# Altium integrated library RELAY.IntLib: 10 symbols
Pins are listed as number, name and electrical type; pins without a type are passive.

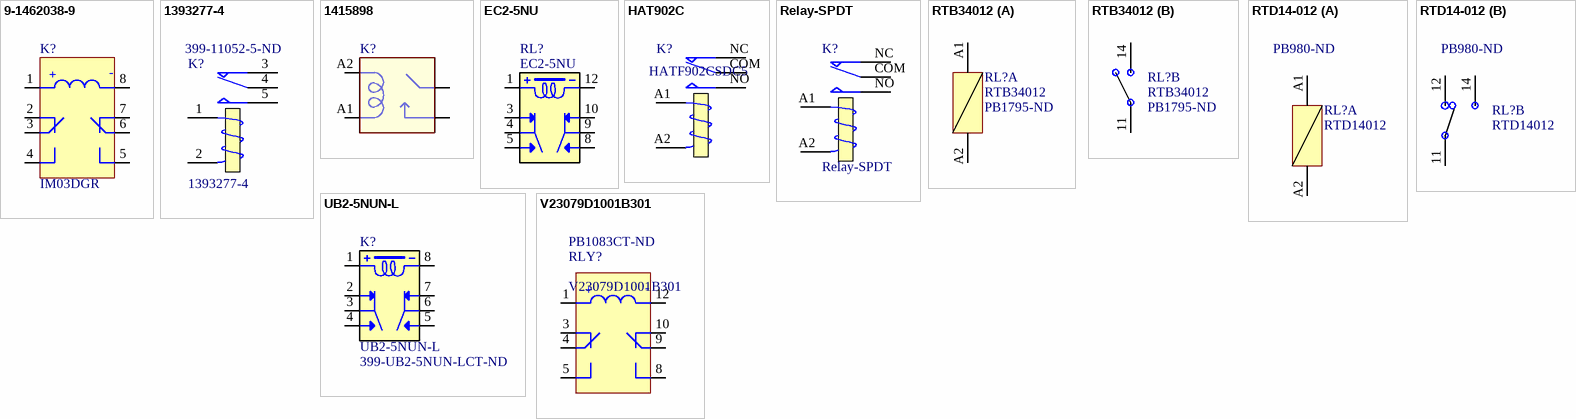
[diagram p0: symbols 9-1462038-9 to V23079D1001B301]

## 9-1462038-9
designator K?, comment IM03DGR
RELAY TELECOM DPDT 5A 5V; Manufacturer: TE Connectivity Potter & Brumfield Relays; Manufacturer Part Number: 9-1462038-9; Coil Type: Non Latching; Coil Current: 28mA; Coil Voltage: 5VDC; Contact Form: DPDT (2 Form C); Switching Voltage: 250VAC, 220VDC - Max; Turn On Voltage (Max): 3.75 VDC; Turn Off Voltage (Min): 0.5 VDC; Operate Time: 3ms; Coil Power: 140 mW; Coil Resistance: 178 Ohms; Supplier 1: Digi-Key; RoHS: RoHS Compliant; Category: Relays; Stock 1: 7189; Pricing 1: 1=3.66, 10=3.427, 25=3.0492, 50=2.8894, 100=2.7443, 250=2.43936, 500=2.27964 (USD); Packaging: Cut Tape (CT); Relay Type: Telecom; Contact Rating (Current): 5A; Release Time: 3ms; Features: Sealed - Hermetically; Mounting Type: Surface Mount; Termination Style: Gull Wing; Contact Material: Silver Nickel (AgNi), Gold (Au); Operating Temperature: -40°C ~ 85°C; ComponentLink1URL: http://www.te.com/commerce/DocumentDelivery/DDEController?Action=srchrtrv&DocNm=108-98001&DocType=SS&DocLang=EN; ComponentLink1Description: http://www.te.com/commerce/DocumentDelivery/DDEController?Action=srchrtrv&DocNm=108-98001&DocType=SS&DocLang=EN; Supplier Part Number 1: PB1172CT-ND; Value: IM03DGR
footprint RELAY8-239X396_2
pins: 1, 2, 3, 4, 5, 6, 7, 8
text: +; -

## 1393277-4
designator K?  Supplier Part Number 3: 399-11052-5-ND
Electromechanical Relay 12VDC 90Ohm 100(NO)/30(NC)A SPDT (26.1x21.1x21.2)mm THT Power Relay; Manufacturer: TE Connectivity AMP; Contact Current Rating: 30A; Coil Current: 133.3mA; Operate Time: 5ms; Number of Contacts: 2; Coil Power: 1.6W; Coil Voltage (DC): 12V; Supplier 1: Digi-Key; Manufacturer Part Number: 1393277-4; Stock 1: 0; Pricing 1: 5250=1.378 (USD); Mount: Through Hole; Number of Pins: 7; Contact Material: Nickel,Silver; Min Operating Temperature: -40°C; Max Operating Temperature: 85°C; Packaging: Bulk; Throw Configuration: SPDT; Depth: 21.1mm; Radiation Hardening: No; REACH SVHC: Unknown; Lead Free: Lead Free; ELV: Compliant; ComponentLink1URL: https://datasheet.ciiva.com/1186/1835430-1186626.pdf; ComponentLink1Description: https://datasheet.ciiva.com/1186/1835430-1186626.pdf; ComponentLink2URL: https://datasheet.ciiva.com/14339/eng-ds-v23076-x0000-a001-e-14339975.pdf; ComponentLink2Description: https://datasheet.ciiva.com/14339/eng-ds-v23076-x0000-a001-e-14339975.pdf; ComponentLink3URL: https://datasheet.ciiva.com/15226/getdatasheetpartid-395515-15226781.pdf; ComponentLink3Description: https://datasheet.ciiva.com/15226/getdatasheetpartid-395515-15226781.pdf; ComponentLink4URL: https://datasheet.ciiva.com/17369/eng-ds-v23076-x0000-a001-e-17369326.pdf; ComponentLink4Description: https://datasheet.ciiva.com/17369/eng-ds-v23076-x0000-a001-e-17369326.pdf; Supplier 2: Mouser; Value: 1393277-4; Supplier Part Number 1: 1393277-4-ND; Supplier Part Number 2: 571-1393277-4; Supplier 3: Digi-Key
footprint 1-1393277-4
pins: 1, 2, 3 NC, 4 COM, 5

## 1415898
designator K?  (value not drawn)
RTS3T012; MF: TE Connectivity; MP: 1415898; Price: None; Availability: Unavailable; SnapEDA_Link: https://www.snapeda.com/parts/1415898/TE%20Connectivity/view-part/?ref=snap; TE_purchase_URL: https://www.te.com/usa-en/product-1415898.html?te_bu=Cor&te_type=disp&te_campaign=seda_glo_cor-seda-global-disp-prtnr-fy19-seda-model-bom-cta_sma-317_1&elqCampaignId=32493; Package: None; Value: *
footprint *RELAY_1415898_1415898(Primary)
pins: 11_1 11, 11_2 11, 14_1 14, 14_2 14, A1, A2

## EC2-5NU
designator RL?
Relay; E-Mech; DPDT; Ctrl-V 5DC; 2A; 250VAC; PCB Mount; Thru Hole; EC2/EE2 Series; Manufacturer: KEMET; Coil Current: 28mA; Coil Resistance: 178R; Coil Voltage (DC): 5V; Operate Time: 2ms; Max Voltage Rating (AC): 250V; Max Voltage Rating (DC): 220V; Coil Type: Non-Latching; Power Consumption: 140mW; Release Time: 1ms; Number of Poles: 1; Relay Type: General Purpose; Supplier 1: Digi-Key; Manufacturer Part Number: EC2-5NU; Stock 1: 17647; Pricing 1: 1 = 1,63000, 10 = 1,53000, 25 = 1,36000, 50 = 1,29200, 100 = 1,22400, 250 = 1,08800, 500 = 1,02000, 3360 = 0,93500, 6720 = 0,91800 (USD); RoHS: Yes; Mount: Through Hole; Number of Pins: 8; Contact Material: Gold; Min Operating Temperature: -40°C; Max Operating Temperature: 85°C; Throw Configuration: DPDT; Packaging: Rail/Tube; Max Current Rating: 2A; Contact Current Rating: 2A; Termination: PC Pin; Package Quantity: 35; Coil Power: 140mW; Current Rating: 2A; Length: 15mm; Height: 9.4mm; Depth: 7.5mm; Radiation Hardening: No; REACH SVHC: No SVHC; ComponentLink1URL: https://datasheet.ciiva.com/29760/docfinderpartnumber-ec2-5nu-29760955.pdf?src-supplier=Digi-Key; ComponentLink1Description: https://datasheet.ciiva.com/29760/docfinderpartnumber-ec2-5nu-29760955.pdf?src-supplier=Digi-Key; ComponentLink2URL: https://datasheet.ciiva.com/28629/1751677-28629990.pdf?src-supplier=Element14; ComponentLink2Description: https://datasheet.ciiva.com/28629/1751677-28629990.pdf?src-supplier=Element14; Supplier Part Number 1: 399-11052-5-ND
footprint RELAY_EC2-5NU
pins: 1, 3, 4, 5, 8, 9, 10, 12

## HAT902C
designator K?, comment HATF902CSDC5
SPDT 30,40 Amp Electromechanical Relay; Contact Arrangement: 1A, 1B, 1C; Contact Resistance: 50mΩ(1A 24VDC); Contact Rating(Resistive): 30/40A 277VAC 30A/28VDC; Max. Switching Voltage: 277VAC/28VDC; Max. Switching Current: 40A; Max. Switching Power: 11080VA/840W; Mechanical Life: 1×107 operations; Electrical Life: 5×104 operations; Supplier 1: HASCO; Supplier Part Number 1: HATF902CSDC5; Value: HATF902CSDC5; Contact Material: SiIver AIIoy; ROHS: Yes; Series: HAT902
footprint HAT902C
pins: A1 T1, A2 T2, COM, NC, NO

## Relay-SPDT
designator K?
SPDT Relay; Published: 8-Jun-2000; LatestRevisionDate: 17-Jul-2002; LatestRevisionNote: Re-released for DXP Platform.; PackageReference: MODULE5B; Publisher: Altium Limited
footprint G5LE
footprint NT90HCE12CB
footprint RELAY_JJM1C
pins: A1 T1, A2 T2, COM, NC, NO

## RTB34012
designator RL?  Supplier Part Number 1: PB1795-ND
RELAY GEN PURPOSE SPST 12A 12V; Manufacturer: TE Connectivity Potter & Brumfield Relays; Relay Type: General Purpose; Coil Type: Non Latching; Coil Voltage: 12VDC; Contact Form: SPST-NO (1 Form A); Switching Voltage: 400VAC - Max; Turn On Voltage (Max): 8.4 VDC; Turn Off Voltage (Min): 1.2 VDC; Coil Power: 400 mW; Supplier 1: Digi-Key; Manufacturer Part Number: RTB34012; RoHS: RoHS Compliant; Category: Relays; Stock 1: 506; Pricing 1: 1=3.41, 10=3.195, 25=2.84, 50=2.698, 100=2.556, 250=2.272, 500=2.13, 1000=1.988, 5000=1.917 (USD); Packaging: Tube; Part Status: Active; Features: Insulation - Class F, Sealed - Fully; Mounting Type: Through Hole; Termination Style: PC Pin; Operating Temperature: -40°C ~ 85°C; Contact Material: Silver Nickel (AgNi); ComponentLink1URL: http://www.te.com/commerce/DocumentDelivery/DDEController?Action=srchrtrv&DocNm=RT1&DocType=DS&DocLang=English; ComponentLink1Description: http://www.te.com/commerce/DocumentDelivery/DDEController?Action=srchrtrv&DocNm=RT1&DocType=DS&DocLang=English
footprint RTB34012
part A pins: A1, A2
part B pins: 11, 14

## RTD14-012
designator RL?, comment RTD14012  Supplier Part Number 1: PB980-ND
RELAY GEN PURPOSE SPST 12A 12V; Manufacturer: TE Connectivity Potter & Brumfield Relays; Manufacturer Part Number: RTB34012; Relay Type: General Purpose; Coil Type: Non Latching; Coil Voltage: 12VDC; Contact Form: SPST-NO (1 Form A); Switching Voltage: 400VAC - Max; Turn On Voltage (Max): 8.4 VDC; Turn Off Voltage (Min): 1.2 VDC; Coil Power: 400 mW; RoHS: RoHS Compliant; Category: Relays; Packaging: Tube; Part Status: Active; Features: Insulation - Class F, Sealed - Fully; Mounting Type: Through Hole; Termination Style: PC Pin; Operating Temperature: -40°C ~ 85°C; Contact Material: Silver Nickel (AgNi); ComponentLink1URL: http://www.te.com/commerce/DocumentDelivery/DDEController?Action=srchrtrv&DocNm=RT1&DocType=DS&DocLang=English; ComponentLink1Description: http://www.te.com/commerce/DocumentDelivery/DDEController?Action=srchrtrv&DocNm=RT1&DocType=DS&DocLang=English; Supplier 1: Digi-Key
footprint RTD14-012
part A pins: A1, A2
part B pins: 11, 12, 14

## UB2-5NUN-L
designator K?  Supplier Part Number 1: 399-UB2-5NUN-LCT-ND
Electromechanical Relay DPDT 5VDC 5VAC 178Ohm Surface Mount; Manufacturer: KEMET; Relay Type: General Purpose; Coil Type: Non-Latching; Coil Current: 28mA; Coil Voltage (DC): 5V; Contact Current Rating: 1A; Operate Time: 2ms; Release Time: 1ms; Coil Power: 140mW; Coil Resistance: 178R; Supplier 1: Digi-Key; Manufacturer Part Number: UB2-5NUN-L; RoHS: Yes; Stock 1: 9594; Pricing 1: 1=2,36000, 10=2,20900, 25=1,96360, 50=1,86520, 100=1,76710, 250=1,57076, 500=1,47258 (USD); Mount: Surface Mount; Contact Material: Gold,Silver; Min Operating Temperature: -40°C; Max Operating Temperature: 85°C; Package Quantity: 1600; Throw Configuration: DPDT; Packaging: Tape and Reel; Termination: Gull Wing; RoHS Compliant: Yes; ComponentLink1URL: https://api.kemet.com/component-edge/download/datasheet/UB2-5NUN-L.pdf?src-supplier=Digi-Key; ComponentLink1Description: https://api.kemet.com/component-edge/download/datasheet/UB2-5NUN-L.pdf?src-supplier=Digi-Key
footprint UB2-5NUN-L
pins: 1, 2, 3, 4, 5, 6, 7, 8

## V23079D1001B301
designator RLY?  Supplier Part Number 1: PB1083CT-ND
RELAY, SMD DPCO 5VDC; Manufacturer: TE Connectivity; Max Voltage Rating (AC): 250V; Max Current Rating: 2A; Max Voltage Rating (DC): 220V; Power Consumption: 140mW; Coil Current: 28.09mA; Throw Configuration: DPDT; Operate Time: 4ms; Coil Power: 682mW; Coil Resistance: 178R; Insertion Loss: 0.27dB; Coil Type: Non-Latching; Coil Voltage (DC): 5V; Actuating System: DC; Supplier 1: Digi-Key; Manufacturer Part Number: V23079D1001B301; Stock 1: 1764; Pricing 1: 1 = 3,35000, 10 = 3,14100, 25 = 2,79200, 50 = 2,65220, 100 = 2,51260 (USD); RoHS: Yes; Mount: Surface Mount; Number of Pins: 8; Weight: 0.0988oz; Contact Material: Nickel; Contact Plating: Gold; Min Operating Temperature: -40°C; Max Operating Temperature: 85°C; Package Quantity: 400; Packaging: Tape and Reel; Contact Current Rating: 2A; Termination: PCB; Release Time: 4ms; Relay Type: Relay; Contact Voltage Rating (DC): 220V; Length: 0.571inch; Height: 0.409inch; Width: 7.2mm; Radiation Hardening: No; Lead Free: Lead Free; ELV: Compliant; ComponentLink1URL: http://www.te.com/commerce/DocumentDelivery/DDEController?Action=srchrtrv&DocNm=108-98002&DocType=SS&DocLang=EN&src-supplier=Digi-Key; ComponentLink1Description: http://www.te.com/commerce/DocumentDelivery/DDEController?Action=srchrtrv&DocNm=108-98002&DocType=SS&DocLang=EN&src-supplier=Digi-Key; ComponentLink2URL: http://www.te.com/commerce/DocumentDelivery/DDEController?Action=showdoc&DocId=Specification+Or+Standard%7F108-98002%7FR%7Fpdf%7FEnglish%7FENG_SS_108-98002_R.pdf&src-supplier=Avnet; ComponentLink2Description: http://www.te.com/commerce/DocumentDelivery/DDEController?Action=showdoc&DocId=Specification+Or+Standard%7F108-98002%7FR%7Fpdf%7FEnglish%7FENG_SS_108-98002_R.pdf&src-supplier=Avnet; ComponentLink3URL: https://www.te.com/commerce/DocumentDelivery/DDEController?Action=srchrtrv&DocNm=108-98002&DocType=SS&DocLang=EN&src-supplier=Digi-Key; ComponentLink3Description: https://www.te.com/commerce/DocumentDelivery/DDEController?Action=srchrtrv&DocNm=108-98002&DocType=SS&DocLang=EN&src-supplier=Digi-Key; ComponentLink4URL: http://www.farnell.com/datasheets/52133.pdf?src-supplier=Element14; ComponentLink4Description: http://www.farnell.com/datasheets/52133.pdf?src-supplier=Element14; Value: V23079D1001B301
footprint V23079D1001B301
pins: 1, 3, 4, 5, 8, 9, 10, 12
text: +; -